# Altium schematic symbol library Schematic_Connector.SchLib: 35 symbols (part 2 of 2)
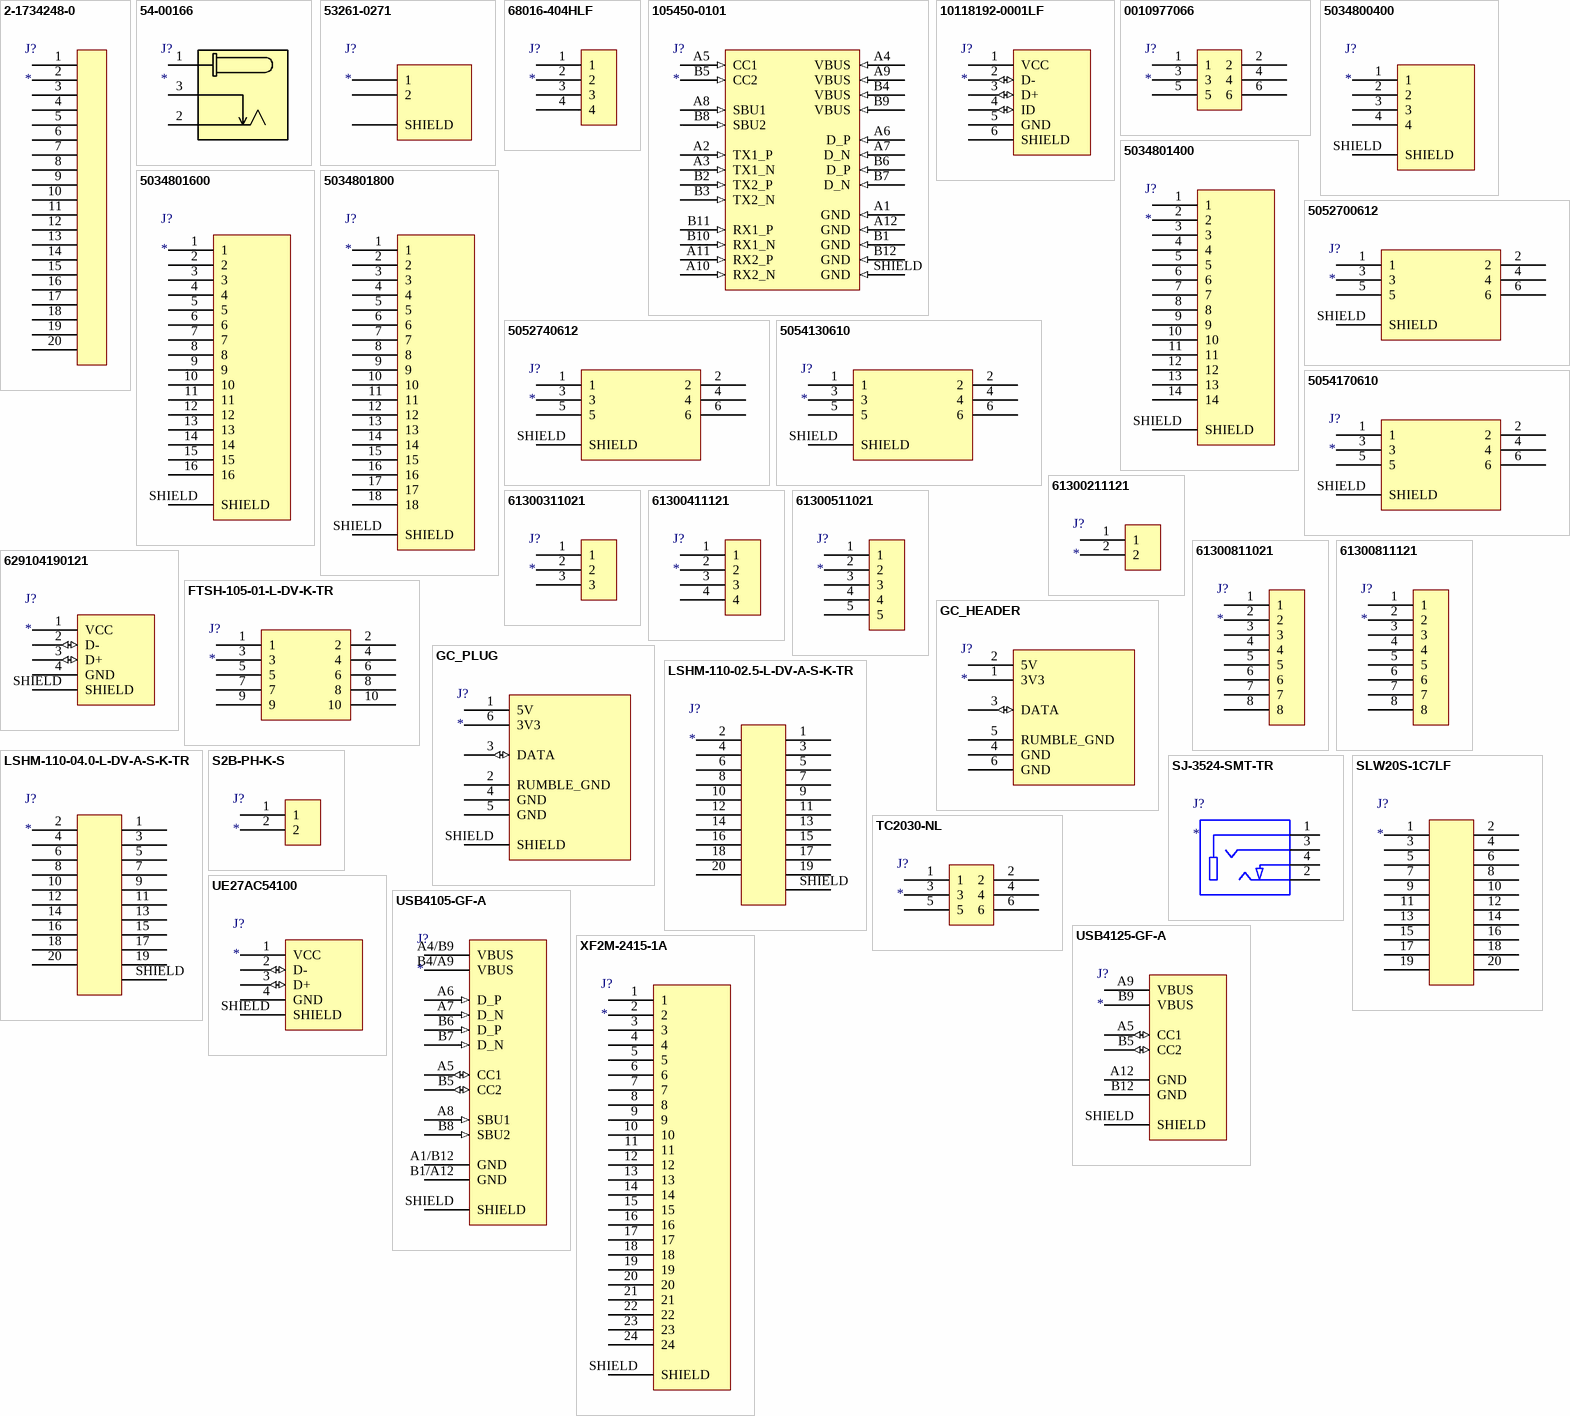
[diagram p1: symbols 2-1734248-0 to XF2M-2415-1A]

## USB4125-GF-A
designator J?
6 Position 20 VDC 4.25 A USB Type C 2.0 Right Angle Receptacle USB Connector; Manufacturer: Global Connector Technology; Manufacturer Part Number: USB4125-GF-A; Supplier 1: Newark; RoHS: No; Category: Connectors; Stock 1: 1000; Pricing 1: 1000=0.37500 (USD)
footprint USB4125-GF-A (USB-C (USB TYPE-C) Receptacle Connector 24 (6+18 Dummy) Position Surface Mount, Right Angle; Through Hole)
pins: A5 CC1 (io), A9 VBUS (power), A12 GND (power), B5 CC2 (io), B9 VBUS (power), B12 GND (power), SHIELD

## XF2M-2415-1A
designator J?
Ffc / Fpc Board Connector, Zif, Surface Mount, Plug, 24, Top, Bottom, 0.5 Mm; Manufacturer: Omron; Manufacturer Part Number: XF2M-2415-1A; Actuator Material: Polymer,Liquid Crystal Polymer; Actuator Color: Black; Voltage Rating: 50V; Current Rating: 500mA; Gender: Female; Number of Positions: 24; Mating Cycles: 20; Contact Resistance: 50mR; Max Voltage Rating (DC): 5.05kV; Insulation Resistance: 100MR; Pitch: 0.5mm; Supplier 1: Digikey; RoHS: Yes; Category: FFC / FPC; Stock 1: 11027; Pricing 1: 1=1.38, 10=1.225, 25=1.1756 (USD); Mounting Technology: Surface Mount; Contact Material: Copper Alloy,Copper,Nickel; Contact Plating: Gold; Housing Color: Natural; Housing Material: Polymer; Min Operating Temperature: -30°C; Max Operating Temperature: 85°C; Number of Rows: 1; Packaging: Tape and Reel; Package Quantity: 1500; Termination: Solder; Number of Contacts: 24; Orientation: Right Angle; Series: XF2M; Number of Poles: 24; Max Current Rating: 500mA; Voltage Rating (AC): 50V; Voltage Rating (DC): 50V; Max Voltage Rating (AC): 50V; Length: 16.1mm; Lead Pitch: 0.5mm; Depth: 6.2mm; Radiation Hardening: No; Flammability Rating: UL94 V-0; RoHS Compliant: Yes; Reach SVHC Compliant: Unknown; Lead Free: Lead Free; ComponentLink1URL: https://datasheet.ciiva.com/11749/0900766b80fd28a0-11749813.pdf?src-supplier=Rs; ComponentLink1Description: https://datasheet.ciiva.com/11749/0900766b80fd28a0-11749813.pdf?src-supplier=Rs; ComponentLink2URL: https://datasheet.ciiva.com/7662/94858-7662440.pdf?src-supplier=Element14; ComponentLink2Description: https://datasheet.ciiva.com/7662/94858-7662440.pdf?src-supplier=Element14; ComponentLink3URL: https://datasheet.ciiva.com/22630/94858-22630556.pdf?src-supplier=Farnell; ComponentLink3Description: https://datasheet.ciiva.com/22630/94858-22630556.pdf?src-supplier=Farnell; ComponentLink4URL: https://datasheet.ciiva.com/7662/94858-7662441.pdf?src-supplier=Element14; ComponentLink4Description: https://datasheet.ciiva.com/7662/94858-7662441.pdf?src-supplier=Element14; ComponentLink5URL: https://datasheet.ciiva.com/5137/xf2m-0713-276160-5137176.pdf?src-supplier=Mouser; ComponentLink5Description: https://datasheet.ciiva.com/5137/xf2m-0713-276160-5137176.pdf?src-supplier=Mouser; ComponentLink6URL: https://datasheet.ciiva.com/669/en-xf2m-669463.pdf?src-supplier=Digikey; ComponentLink6Description: https://datasheet.ciiva.com/669/en-xf2m-669463.pdf?src-supplier=Digikey; ComponentLink7URL: https://datasheet.ciiva.com/669/en-xf2m-669464.pdf?src-supplier=Digikey; ComponentLink7Description: https://datasheet.ciiva.com/669/en-xf2m-669464.pdf?src-supplier=Digikey; ComponentLink8URL: https://datasheet.ciiva.com/669/en-xf2m-669462.pdf?src-supplier=Digikey; ComponentLink8Description: https://datasheet.ciiva.com/669/en-xf2m-669462.pdf?src-supplier=Digikey; ComponentLink9URL: https://datasheet.ciiva.com/3112/en-xf2m-3112575.pdf?src-supplier=Avnet; ComponentLink9Description: https://datasheet.ciiva.com/3112/en-xf2m-3112575.pdf?src-supplier=Avnet; ComponentLink10URL: https://datasheet.ciiva.com/16125/en-xf2m-16125242.pdf?src-supplier=Onlinecomponents.com; ComponentLink10Description: https://datasheet.ciiva.com/16125/en-xf2m-16125242.pdf?src-supplier=Onlinecomponents.com
footprint XF2M-2415-1A
pins: 1, 2, 3, 4, 5, 6, 7, 8, 9, 10, 11, 12, 13, 14, 15, 16, 17, 18, 19, 20, 21, 22, 23, 24, SHIELD